# Altium schematic symbol library L1008.SchLib: 1 symbol
Pins are listed as number, name and electrical type; pins without a type are passive.

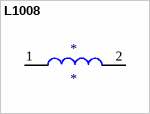
[diagram p0: symbol L1008]

## L1008
designator *
Vishay IMC1008E2RJ7
footprint L1008
pins: 1, 2